# Altium schematic symbol library JUMPER.Schlib: 1 symbol
Pins are listed as number, name and electrical type; pins without a type are passive.

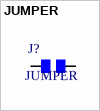
[diagram p0: symbol JUMPER]

## JUMPER
designator J?
Назначение: Джампер; Наименование: Джампер
footprint XJMP-2
pins: 1, 2